# EAGLE library part ISL29023_AMBIENT_LIGHT_SENSOR (library m_opto)
Integrated Digital Light Sensor with Interrupt Description The ISL29023 is an integrated ambient and infrared light to digital converter with I2C (SMBus Compatible) Interface. Its advanced self-calibrated photodiode array emulates human eye response with excellent IR rejection. The on-chip ADC is capable of rejecting 50Hz and 60Hz flicker caused by artificial light sources. The lux range select feature allows users to program the lux range for optimized counts/lux. For ambient light sensing, an internal 16-bit ADC has been designed based upon the charge-balancing technique. The ADC conversion time is nominally 90ms and is user adjustable from 11μs to 90ms, depending on oscillator frequency and ADC resolution. In normal operation, typical current consumption is 70μA. In order to further minimize power consumption, two power-down modes have been provided. If polling is chosen over continuous measurement of light, the auto-power-down function shuts down the whole chip after each ADC conversion for the measurement. The other power-down mode is controlled by software via the I2C interface. The power consumption can be reduced to less than 0.3μA when powered down. The ISL29023 supports a software and hardware interrupt that remains asserted until the host clears it through I2C interface. Function of ADC conversion continues without stopping after interrupt is asserted. Designed to operate on supplies from 2.25V to 3.63V with an I2C supply from 1.7V to 3.63V, the ISL29023 is specified for operation over the -40°C to +85°C ambient temperature range. Applications Mobile devices: smart phone, PDA, GPS Computing devices: Notebook PC, Webpad Consumer devices: LCD-TV, digital picture frame, digital camera Industrial and medical light sensing Features Resolution 16-bits ADC Integrated noise reduction 50/60Hz Light sensor close to human eye response Excellent light sensor IR and UV rejection Range selection via I2C Range1 = 0.015 to 1,000 Lux Range2 = 0.06 to 4,000 Lux Range3 = 0.24 to 16,000 Lux Range4 = 0.96 to 64,000 Lux Shutdown modes Software and Automatic Supply current(Max) 85μA Shutdown current(Max) 0.3μA Control interface I2C and SMB Compatible I2C power supply 1.7V to 3.63V Sensor power supply 2.25V to 3.63V Operating temperature range -40°C to +85°C Small form factor package 6 Ld 2.0x2.1x0.7 ODFN Data from ISL29023 datasheet, FN6691.4, 2014-05-01 Added 2016-08-25 Octopart <https://octopart.com/search?q=ISL29023IROZ-T7>
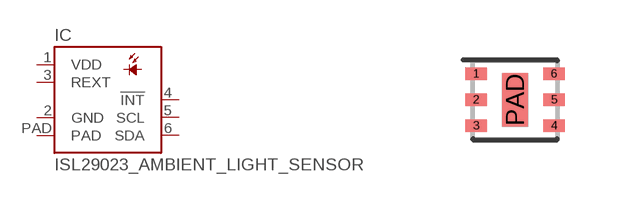
[diagram p6: symbol with the pads of ISL_L6.2X2.1; footprint ISL_L6.2X2.1]

Designator prefix IC

## ISL29023_AMBIENT_LIGHT_SENSOR (MANUF: Intersil; PARTNUM: ISL29023IROZ-T7)  [ISL_L6.2X2.1]
1  VDD  pas
2  GND  pas
3  REXT  pas
4  !INT  pas
5  SCL  pas
6  SDA  pas
PAD  PAD  pas

## Footprint ISL_L6.2X2.1 (pad centres in mm)
ISL L6.2x2.1 6 LEAD OPTICAL DUAL FLAT NO-LEAD PLASTIC PACKAGE (ODFN) Data based on Intersil ISL29023 datahseet, Rev 3, 5/11
smd 0.55 x 0.3: 1 -0.975,0.65; 2 -0.975,0; 3 -0.975,-0.65; 4 0.975,-0.65; 5 0.975,0; 6 0.975,0.65
smd 0.65 x 1.35: PAD 0,0